# Altium footprint library USB.PCBLIB: 6 footprints
Each footprint in its own frame and in the unit in brackets; x right, y up, seen from the top. Pads: shape width x height; smd on the part's side, far side on the other; paste and mask are expansions set on the pad; w line width, h text height; cw(c..) or ccw(c..) is an arc to the next point about the centre after c.
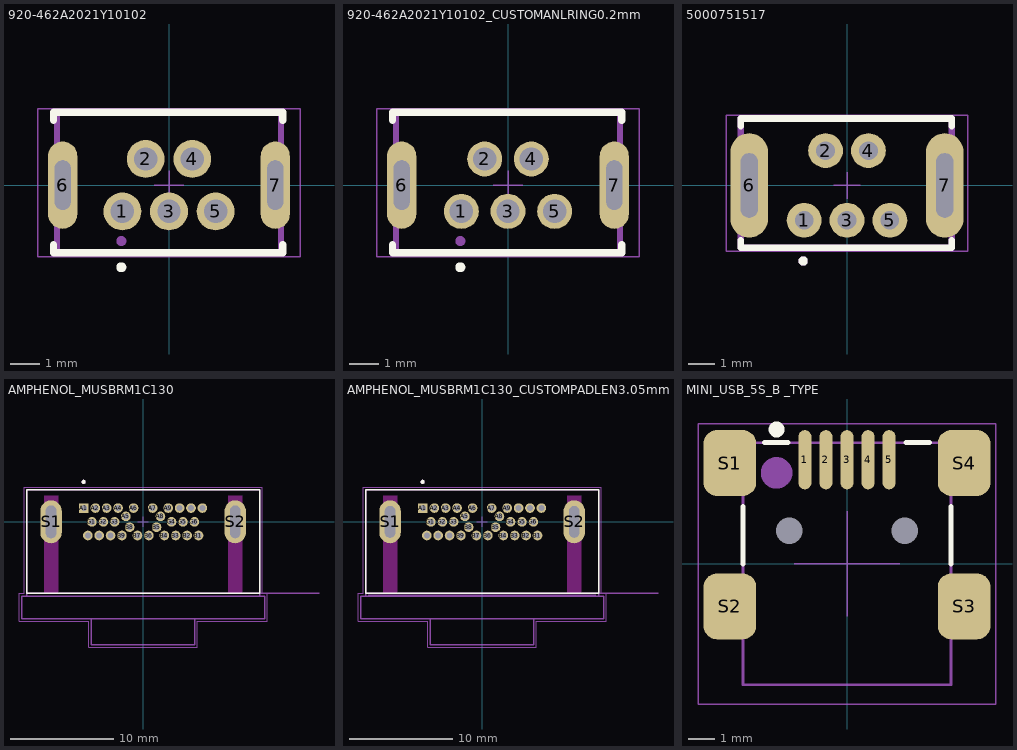
[diagram p0: the footprints below, top view; thin cyan lines are the x and y axes]

## 920-462A2021Y10102 [mm]
pads (7):
  round 1.3 hole 0.8: 1(-1.6,-0.9) 2(-0.8,0.9) 3(0,-0.9) 4(0.8,0.9) 5(1.6,-0.9)
  oval 1x3 hole 0.55 slot 1.7 at 90 deg: 6(-3.65,0) 7(3.65,0)
Top Overlay:
  circle w0.2: c-1.638,-2.819 r0.072
  lines w0.254: -3.964,-2.05 -3.964,-2.327 3.91,-2.327 3.91,-2.05 ; -3.964,2.222 -3.964,2.499 3.91,2.499 3.91,2.222
Top Assembly:
  circle w0.2: c-1.638,-1.919 r0.072
  lines w0.2: 3.85,-2.35 -3.85,-2.35 -3.85,2.55 3.85,2.55 3.85,-2.3
Top Courtyard:
  lines w0.051: -4.5,-2.454 -4.5,2.626 4.5,2.626 4.5,-2.454 -4.5,-2.454
Top Designator:
  text ".Designator" at -5.1,3.2 h1
Top Component Center:
  lines w0.05: -0.5,0 0.5,0 ; 0,-0.5 0,0.5
3D body "5000751517.stp": height 7.74, standoff -2.06, extent -3.8,-2.3 3.9,2.4

## 920-462A2021Y10102_CUSTOMANLRING0.2mm [mm]
pads (7):
  round 1.2 hole 0.8: 1(-1.6,-0.9) 2(-0.8,0.9) 3(0,-0.9) 4(0.8,0.9) 5(1.6,-0.9)
  oval 1x3 hole 0.55 slot 1.7 at 90 deg: 6(-3.65,0) 7(3.65,0)
Top Overlay:
  circle w0.2: c-1.638,-2.819 r0.072
  lines w0.254: -3.964,-2.05 -3.964,-2.327 3.91,-2.327 3.91,-2.05 ; -3.964,2.222 -3.964,2.499 3.91,2.499 3.91,2.222
Top Assembly:
  circle w0.2: c-1.638,-1.919 r0.072
  lines w0.2: 3.85,-2.35 -3.85,-2.35 -3.85,2.55 3.85,2.55 3.85,-2.3
Top Courtyard:
  lines w0.051: -4.5,-2.454 4.5,-2.454 4.5,2.626 -4.5,2.626 -4.5,-2.454
Top Designator:
  text ".Designator" at -5.1,3.2 h1
Top Component Center:
  lines w0.05: -0.5,0 0.5,0 ; 0,-0.5 0,0.5
3D body "5000751517.stp": height 7.74, standoff -2.06, extent -3.8,-2.3 3.9,2.4

## 5000751517 [mm]
pads (7):
  round 1.3 hole 0.7: 1(-1.6,-1.3) 2(-0.8,1.3) 3(0,-1.3) 4(0.8,1.3) 5(1.6,-1.3)
  oval 1.4x3.9 hole 0.65 slot 2.4 at 90 deg: 6(-3.65,0) 7(3.65,0)
Top Overlay:
  circle w0.2: c-1.638,-2.819 r0.072
  lines w0.254: -3.964,-2.05 -3.964,-2.327 3.91,-2.327 3.91,-2.05 ; -3.964,2.222 -3.964,2.499 3.91,2.499 3.91,2.222
Top Assembly:
  circle w0.2: c-1.638,-2.819 r0.072
  lines w0.254: -3.964,-2.327 3.91,-2.327 3.91,2.499 -3.964,2.499 -3.964,-2.327
Top Courtyard:
  lines w0.051: -4.5,-2.454 -4.5,2.626 4.5,2.626 4.5,-2.454 -4.5,-2.454
Top Designator:
  text ".Designator" at -5.1,3.2 h1
Top Component Center:
  lines w0.05: -0.5,0 0.5,0 ; 0,-0.5 0,0.5
3D body "5000751517.stp": height 7.74, standoff -2.06, extent -3.85,-2.3 3.85,2.4

## AMPHENOL_MUSBRM1C130 [mm]
height 9.05
pads (32):
  rect 0.93x0.93 / inner round 0.93 / far side rect 0.93x0.93 hole 0.58: A1(-5.725,1.325)
  round 0.93 hole 0.58: A2(-4.625,1.325) A3(-3.525,1.325) A4(-2.425,1.325) A5(-1.675,0.525) A6(-0.925,1.325) A7(0.925,1.325) A8(1.675,0.525) A9(2.425,1.325) A10(3.525,1.325) A11(4.625,1.325) A12(5.725,1.325) B1(5.35,-1.325) B2(4.25,-1.325) B3(3.15,-1.325) B4(2.05,-1.325) B5(1.3,-0.525) B6(0.55,-1.325) B7(-0.55,-1.325) B8(-1.3,-0.525) B9(-2.05,-1.325) B10(-3.15,-1.325) B11(-4.25,-1.325) B12(-5.35,-1.325) G1(-4.95,0) G2(-3.85,0) G3(-2.75,0) G4(2.75,0) G5(3.85,0) G6(4.95,0)
  oval 2.075x4.15 hole 1 slot 3.15 at 90 deg: S1(-8.9,0) S2(8.9,0)
Top Overlay:
  circle w0.2: c-5.75,3.865 r0.1
  lines w0.127: -11.25,-6.93 11.25,-6.93 11.25,3.075 -11.25,3.075 -11.25,-6.93
Keep-Out Layer:
  region: -8.225,-6.93 -9.575,-6.93 -9.575,2.5 -8.225,2.5
  region: 9.575,-6.93 8.225,-6.93 8.225,2.5 9.575,2.5
Top Assembly:
  circle w0.2: c-5.75,3.865 r0.1
  lines w0.127: 17,-6.93 11.25,-6.93 ; -11.25,-7.175 11.25,-7.175 ; -11.25,-7.175 -11.25,-6.93 ; -11.25,-7.175 -11.75,-7.175 -11.75,-9.375 -5,-9.375 ; -11.25,-6.93 11.25,-6.93 ; -11.25,-6.93 -11.25,3.075 11.25,3.075 11.25,-6.93 ; -5,-9.375 5,-9.375 ; -5,-9.375 -5,-11.875 5,-11.875 5,-9.375 ; 5,-9.375 11.75,-9.375 11.75,-7.175 11.25,-7.175 ; 11.25,-7.175 11.25,-6.93
  text "PCB Edge" at 11.6,-6.5 h0.81
Top Courtyard:
  lines w0.05: -12,-9.625 -12,-6.925 -11.5,-6.925 -11.5,3.325 11.5,3.325 11.5,-6.925 12,-6.925 12,-9.625 5.25,-9.625 5.25,-12.125 -5.25,-12.125 -5.25,-9.625 -12,-9.625
Top Designator:
  text ".Designator" at -5.1,3.8 h1
Top Component Center:
  lines w0.05: -0.5,0 0.5,0 ; 0,-0.5 0,0.5
3D body "step_temp.STEP": height 7.55, standoff -3.1, extent -11.75,-11.875 11.75,3.075

## AMPHENOL_MUSBRM1C130_CUSTOMPADLEN3.05mm [mm]
height 9.05
pads (32):
  rect 0.93x0.93 / inner round 0.93 / far side rect 0.93x0.93 hole 0.58: A1(-5.725,1.325)
  round 0.93 hole 0.58: A2(-4.625,1.325) A3(-3.525,1.325) A4(-2.425,1.325) A5(-1.675,0.525) A6(-0.925,1.325) A7(0.925,1.325) A8(1.675,0.525) A9(2.425,1.325) A10(3.525,1.325) A11(4.625,1.325) A12(5.725,1.325) B1(5.35,-1.325) B2(4.25,-1.325) B3(3.15,-1.325) B4(2.05,-1.325) B5(1.3,-0.525) B6(0.55,-1.325) B7(-0.55,-1.325) B8(-1.3,-0.525) B9(-2.05,-1.325) B10(-3.15,-1.325) B11(-4.25,-1.325) B12(-5.35,-1.325) G1(-4.95,0) G2(-3.85,0) G3(-2.75,0) G4(2.75,0) G5(3.85,0) G6(4.95,0)
  oval 2.075x4.15 hole 1 slot 3.05 at 90 deg: S1(-8.9,0) S2(8.9,0)
Top Overlay:
  circle w0.2: c-5.75,3.865 r0.1
  lines w0.127: -11.25,-6.93 -11.25,3.075 11.25,3.075 11.25,-6.93 -11.25,-6.93
Keep-Out Layer:
  region: 9.575,-6.93 8.225,-6.93 8.225,2.5 9.575,2.5
  region: -8.225,-6.93 -9.575,-6.93 -9.575,2.5 -8.225,2.5
Top Assembly:
  circle w0.2: c-5.75,3.865 r0.1
  lines w0.05: -11,-7.053 11,-7.053
  lines w0.127: 17,-6.93 11.25,-6.93 ; -11.25,-7.175 -11.75,-7.175 -11.75,-9.375 -5,-9.375 ; -11.25,-7.175 -11.25,-6.93 ; -11.25,-7.175 11.25,-7.175 ; -11.25,-6.93 -11.25,3.075 11.25,3.075 11.25,-6.93 ; -11.25,-6.93 11.25,-6.93 ; -5,-9.375 -5,-11.875 5,-11.875 5,-9.375 ; -5,-9.375 5,-9.375 ; 5,-9.375 11.75,-9.375 11.75,-7.175 11.25,-7.175 ; 11.25,-7.175 11.25,-6.93
  text "PCB Edge" at 11.6,-6.5 h0.81
  text "ZC PCB Edge (Shift 0.1225mm)" at -10.7,-6.4 h0.81
Top Courtyard:
  lines w0.05: -12,-9.625 -5.25,-9.625 -5.25,-12.125 5.25,-12.125 5.25,-9.625 12,-9.625 12,-6.925 11.5,-6.925 11.5,3.325 -11.5,3.325 -11.5,-6.925 -12,-6.925 -12,-9.625
Top Designator:
  text ".Designator" at -4.5,3.9 h1
Top Component Center:
  lines w0.05: -0.5,0 0.5,0 ; 0,-0.5 0,0.5
Mechanical 15:
  lines w0.05: -12,-9.625 -5.25,-9.625 -5.25,-12.125 5.25,-12.125 5.25,-9.625 12,-9.625 12,-6.925 11.5,-6.925 11.5,3.325 -11.5,3.325 -11.5,-6.925 -12,-6.925 -12,-9.625
3D body "step_temp.STEP": height 7.55, standoff -3.1, extent -11.75,-11.875 11.75,3.075

## MINI_USB_5S_B _TYPE [mm]
height 4
pads (11):
  oval 0.5x2.25 smd: 1(-1.6,3.95) 2(-0.8,3.951) 3(0,3.95) 4(0.8,3.951) 5(1.6,3.951)
  round 0 hole 1 unplated: A(-2.2,1.251) B(2.2,1.251)
  rrect50% 2x2.5 smd: S1(-4.45,3.825) S2(-4.45,-1.625) S3(4.45,-1.625) S4(4.45,3.825)
Top Overlay:
  circle w0.4: c-2.675,5.1 r0.1
  lines w0.2: -3.95,0.001 -3.95,2.163 ; -3.125,4.6 -2.25,4.6 ; 2.25,4.601 3.125,4.601 ; 3.95,0.001 3.95,2.163
Top Assembly:
  circle w0.6: c-2.675,3.45 r0.3
  lines w0.1: -3.95,-2.399 -4.692,-2.399 cw(c-4.692,-2.141) -4.95,-2.141 cw(c-4.692,-2.141) -4.692,-1.883 ccw(c-4.692,-1.624) -4.433,-1.624 ccw(c-4.692,-1.624) -4.692,-1.366 cw(c-4.692,-1.108) -4.95,-1.108 cw(c-4.692,-1.108) -4.692,-0.85 -3.95,-0.85 ; -3.95,3.05 -4.692,3.05 cw(c-4.692,3.309) -4.95,3.309 cw(c-4.692,3.309) -4.692,3.567 ccw(c-4.692,3.826) -4.433,3.826 ccw(c-4.692,3.826) -4.692,4.084 cw(c-4.692,4.342) -4.95,4.342 cw(c-4.692,4.342) -4.692,4.6 4.692,4.6 cw(c4.692,4.342) 4.95,4.342 cw(c4.692,4.342) 4.692,4.084 ccw(c4.692,3.826) 4.433,3.826 ccw(c4.692,3.826) 4.692,3.567 cw(c4.692,3.309) 4.95,3.309 cw(c4.692,3.309) 4.692,3.05 3.95,3.05 ; -3.95,4.6 -3.95,-4.601 ; 3.95,-2.399 4.692,-2.399 ccw(c4.692,-2.141) 4.95,-2.141 ccw(c4.692,-2.141) 4.692,-1.883 cw(c4.692,-1.624) 4.433,-1.624 cw(c4.692,-1.624) 4.692,-1.366 ccw(c4.692,-1.108) 4.95,-1.108 ccw(c4.692,-1.108) 4.692,-0.85 3.95,-0.85 ; 3.95,4.6 3.95,-4.6 ; -3.95,-4.6 3.95,-4.6 ; -3.95,-4.601 3.95,-4.601
Top Courtyard:
  lines w0.05: -5.65,-5.337 5.65,-5.337 5.65,5.313 -5.65,5.313 -5.65,-5.337
Top Designator:
  text ".Designator" at -0.5,-0.5 h1
Top Component Center:
  lines w0.05: -2,0 2,0 ; 0,-2 0,2
3D body "65100516121.stp": height 4.05, standoff -0.85, extent -4.775,-4.637 4.825,4.613